# EAGLE library part MICRO-SD-RS (library PonLib)
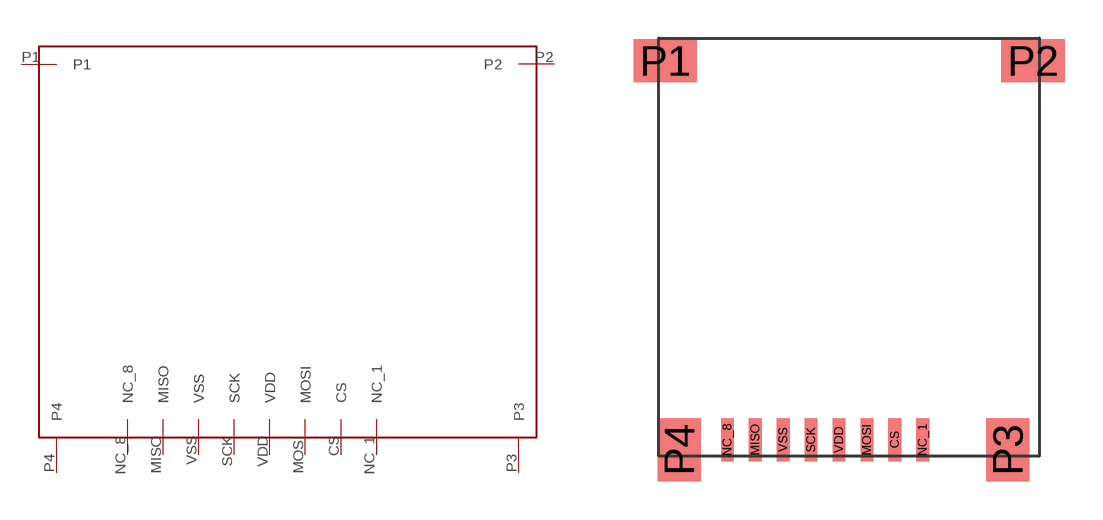
[diagram p8: symbol with the pads of MICRO-SD-RS; footprint MICRO-SD-RS]

Designator prefix -

## MICRO-SD-RS  [MICRO-SD-RS]
CS  CS
MISO  MISO
MOSI  MOSI
NC_1  NC_1
NC_8  NC_8
P1  P1
P2  P2
P3  P3
P4  P4
SCK  SCK
VDD  VDD
VSS  VSS

## Footprint MICRO-SD-RS (pad centres in mm)
smd 0.5 x 1.7: CS 1.8,-0.85; MISO -3.7,-0.85; MOSI 0.7,-0.85; NC_1 2.9,-0.85; NC_8 -4.8,-0.85; SCK -1.5,-0.85; VDD -0.4,-0.85; VSS -2.6,-0.85
smd 2.5 x 1.7: P1 -7.25,14.1; P2 7.25,14.1
smd 1.7 x 2.5: P3 6.25,-1.25; P4 -6.7,-1.25